# Altium schematic symbol library LimeMicroAltiumLib.SchLib: 659 symbols (part 8 of 22)
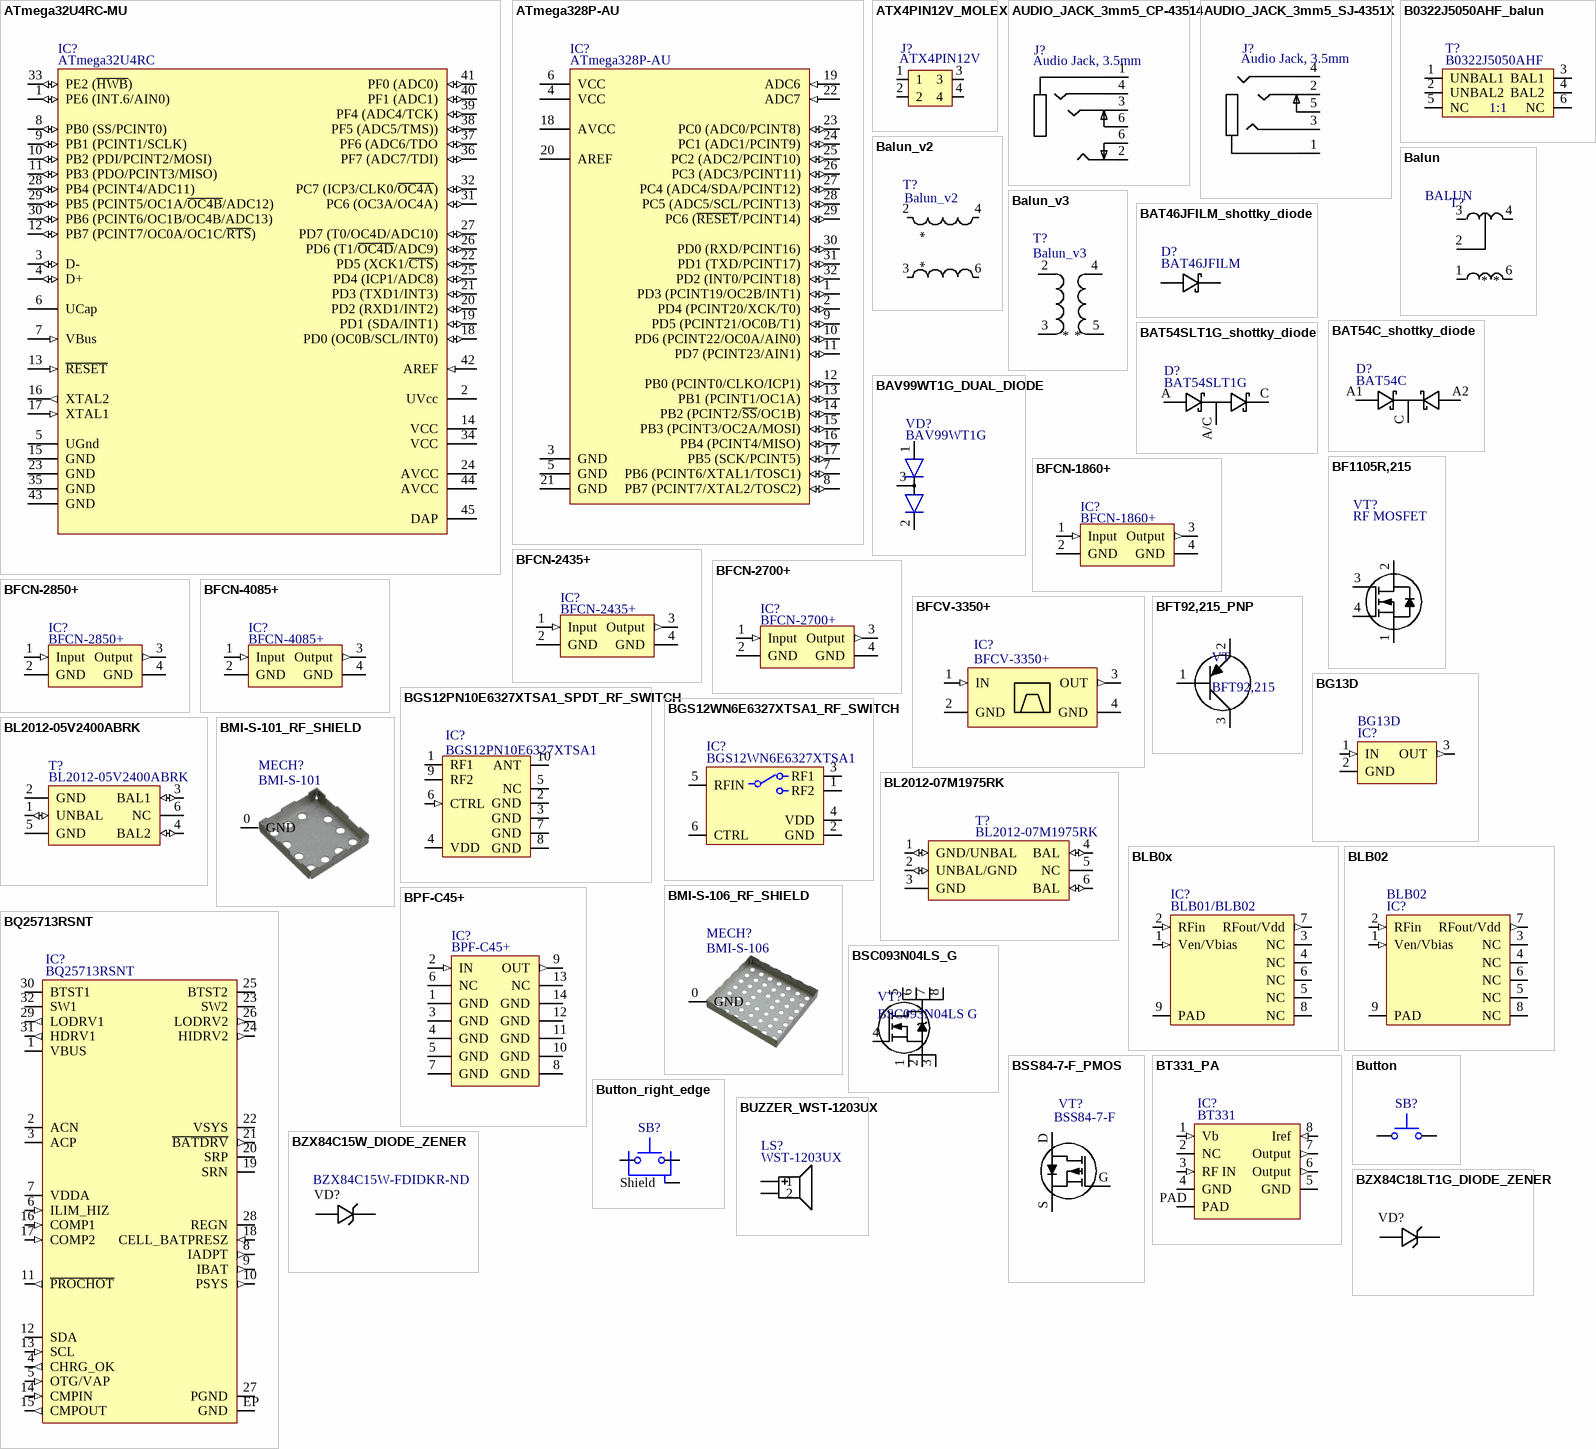
[diagram p85: symbols ATmega32U4RC-MU to BZX84C18LT1G_DIODE_ZENER]

## BMI-S-106_RF_SHIELD
designator MECH?, comment BMI-S-106
Part Description: RF Shield Shield, 1-Piece 1.326" (33.68mm) X 1.450" (36.83mm) Vent Holes in Pattern Surface Mount; Manufacturer: Laird; ComponentLink1URL: http://assets.lairdtech.com/home/brandworld/files/EMI-CAT-Essentials%201213.pdf?src-supplier=Digikey; ComponentLink1Description: http://assets.lairdtech.com/home/brandworld/files/EMI-CAT-Essentials%201213.pdf?src-supplier=Digikey; ComponentLink2URL: http://assets.lairdtech.com/home/brandworld/files/Board%20Level%20Shields%20Catalog%20Download.pdf?src-supplier=Digikey; ComponentLink2Description: http://assets.lairdtech.com/home/brandworld/files/Board%20Level%20Shields%20Catalog%20Download.pdf?src-supplier=Digikey; ComponentLink3URL: https://datasheet.octopart.com/BMI-S-101-Laird-datasheet-150754577.pdf?src-supplier=Sager+Electronics; ComponentLink3Description: https://datasheet.octopart.com/BMI-S-101-Laird-datasheet-150754577.pdf?src-supplier=Sager+Electronics; Supplier 1: Digikey; Supplier Part Number 1: 903-1011-1-ND; Manufacturer Part Number 1: BMI-S-106; Stock 1: 3779; Pricing 1: 1=5,5, 10=3,603, 25=3,1076, 100=2,548 (USD); RoHS: Yes; Mount: Solder; Packaging: Cut Tape; Series: SMT 1 Piece
footprint BMI-S-106_RF_SHIELD (Full footprint)
pins: 0 GND

## BPF-C45+
designator IC?
Part Description: Bandpass Filter; 50Ω; 30 to 70 MHz; CASE STYLE: HU1186; Manufacturer: MiniCircuits; Supplier 1: MiniCircuits; Manufacturer Part Number 1: BPF-C45+; Supplier Part Number 1: BPF-C45+
footprint BPF-C45+
pins: 1 GND, 2 IN (in), 3 GND, 4 GND, 5 GND, 6 NC, 7 GND, 8 GND, 9 OUT (out), 10 GND, 11 GND, 12 GND, 13 NC, 14 GND

## BQ25713RSNT
designator IC?
Manufacturer: Texas Instruments; Part Description: Battery Battery Monitor IC Multi-Chemistry 32-WQFN (4x4); Fault Protection: Over Current,Over Voltage,Over Temperature; Interface: I2C; Number of Cells: 1234; Supplier 1: Digi-Key; Supplier Part Number 1: 296-50241-1-ND; Manufacturer Part Number 1: BQ25713RSNT; Stock 1: 275; Pricing 1: 1=4,27000, 10=3,83200, 25=3,62240, 100=2,97850 (USD); RoHS: No; Min Operating Temperature: -40°C; Max Operating Temperature: 85°C; Packaging: Tape and Reel; ComponentLink1URL: http://www.ti.com/lit/ds/symlink/bq25713.pdf?src-supplier=Digi-Key; ComponentLink1Description: http://www.ti.com/lit/ds/symlink/bq25713.pdf?src-supplier=Digi-Key
footprint BQ25713RSNT_QFN4X4_32 (QFN, 32-Leads, Body 4.15x4.15mm, Pitch 0.4mm, IPC High Density)
pins: 1 VBUS, 2 ACN, 3 ACP, 4 CHRG_OK (out), 5 OTG/VAP (in), 6 ILIM_HIZ (in), 7 VDDA, 8 IADPT (out), 9 IBAT (out), 10 PSYS (out), 11 ~{PROCHOT} (out), 12 SDA (io), 13 SCL (in), 14 CMPIN (in), 15 CMPOUT (out), 16 COMP1 (in), 17 COMP2 (in), 18 CELL_BATPRESZ (in), 19 SRN, 20 SRP, 21 ~{BATDRV} (out), 22 VSYS, 23 SW2, 24 HIDRV2 (out), 25 BTST2, 26 LODRV2 (out), 27 PGND, 28 REGN, 29 LODRV1 (out), 30 BTST1, 31 HDRV1 (out), 32 SW1, EP GND

## BSC093N04LS_G
designator VT?, comment BSC093N04LS G
Manufacturer: Infineon Technologies; Power - Max: 35W; Vgs(th) (Max) @ Id: 2V @ 14µA; Current - Continuous Drain (Id) @ 25°C: 13A (Ta), 49A (Tc); FET Type: MOSFET N-Channel, Metal Oxide; Rds On (Max) @ Id, Vgs: 9.3 mOhm @ 40A, 10V; Gate Charge (Qg) @ Vgs: 24nC @ 10V; Input Capacitance (Ciss) @ Vds: 1900pF @ 20V; Drain to Source Voltage (Vdss): 40V; Supplier 1: Digi-Key; Category: Discrete Semiconductor Products; Manufacturer Part Number: BSC093N04LS G; Package / Case: 8-PowerTDFN; Supplier Part Number 1: BSC093N04LS GDKR-ND
footprint BSC093N04LS_G (SON, 8-Leads, Body 5,32x6,15mm, Pitch 1,27mm, Thermal Pad 3,60x4,05mm, IPC Medium Density)
pins: 1 S, 2 S, 3 S, 4 G, 5 D, 6 D, 7 D, 8 D

## BSS84-7-F_PMOS
designator VT?, comment BSS84-7-F
Part Description: MOSFET P-CH 50V 130MA SOT23-3; Manufacturer: Diodes; Input Capacitance: 45pF; Number of Elements: 1; Max Power Dissipation: 300mW; Rds On Max: 10R; Voltage Rating (DC): -50V; Current Rating: -130mA; Element Configuration: Single; Gate to Source Voltage (Vgs): 20V; Turn-Off Delay Time: 18ns; Continuous Drain Current (ID): 130mA; Turn-On Delay Time: 10ns; Threshold Voltage: -800mV; ComponentLink1URL: https://datasheet.ciiva.com/30021/csd25402q3a-30021955.pdf?src-supplier=Avnet; ComponentLink1Description: https://datasheet.ciiva.com/30021/csd25402q3a-30021955.pdf?src-supplier=Avnet; Supplier 1: Digi-Key; Supplier Part Number 1: BSS84-FDICT-ND; Manufacturer Part Number 1: BSS84-7-F; Stock 1: 952761; Pricing 1: 1=0,23000, 10=0,19000, 25=0,15920, 100=0,07780, 500=0,06488, 1000=0,04508 (USD); RoHS: Yes; Mount: Surface Mount; Case/Package: SOT-23; Number of Pins: 3; Contact Plating: Tin,Matte; Weight: 0.000282oz; Min Operating Temperature: -55°C; Max Operating Temperature: 150°C; Packaging: Tape and Reel; Package Quantity: 3000; Number of Channels: 1; On-State Resistance: 10R; Power Dissipation: 300mW; Drain to Source Resistance: 10R; Drain to Source Voltage (Vdss): -50V; Length: 2.9mm; Width: 1.3mm; Height: 1mm; Lead Free: Lead Free; REACH SVHC: No SVHC; ComponentLink2URL: https://datasheet.ciiva.com/16221/ds30149-16221984.pdf?src-supplier=Future+Electronics; ComponentLink2Description: https://datasheet.ciiva.com/16221/ds30149-16221984.pdf?src-supplier=Future+Electronics; ComponentLink3URL: https://datasheet.ciiva.com/4442/ds30149-42275-4442950.pdf?src-supplier=Mouser; ComponentLink3Description: https://datasheet.ciiva.com/4442/ds30149-42275-4442950.pdf?src-supplier=Mouser; ComponentLink4URL: https://datasheet.ciiva.com/934/ds30149-934539.pdf?src-supplier=Digi-Key; ComponentLink4Description: https://datasheet.ciiva.com/934/ds30149-934539.pdf?src-supplier=Digi-Key; ComponentLink5URL: https://datasheet.ciiva.com/8115/ds30149-8115403.pdf?src-supplier=Avnet; ComponentLink5Description: https://datasheet.ciiva.com/8115/ds30149-8115403.pdf?src-supplier=Avnet; ComponentLink6URL: https://datasheet.ciiva.com/934/ds30149-934540.pdf?src-supplier=Digi-Key; ComponentLink6Description: https://datasheet.ciiva.com/934/ds30149-934540.pdf?src-supplier=Digi-Key; ComponentLink7URL: https://datasheet.ciiva.com/49020/70437757-49020999.pdf?src-supplier=Allied+Electronics; ComponentLink7Description: https://datasheet.ciiva.com/49020/70437757-49020999.pdf?src-supplier=Allied+Electronics
footprint SOT23-3 (Footprint not found)
pins: D, G, S

## BT331_PA
designator IC?, comment BT331
Berex BT331 RF PA; Part Description: 700-2700 MHz 1.5-2W RF Power Amplifier; Manufacturer Part Number 1: BT331; Supplier Part Number 1: BT331; Supplier 1: Berex; Manufacturer: Berex
footprint BT331_PA (Berex BT331 RF PA)
pins: 1 Vb (in), 2 NC, 3 RF IN (in), 4 GND, 5 GND, 6 Output (out), 7 Output (out), 8 Iref (in), PAD

## Button
designator SB?  (value not drawn)
pins: 1, 2

## Button_right_edge
designator SB?, comment Switch tactile right edge  (value not drawn)
Part Description: Tactile Switch SPST-NO Side Actuated Through Hole, Right Angle
footprint SW_TACTILE_RIGHT_EDGE (part number 1825027-5)
pins: 1, 2, Shield

## BUZZER_WST-1203UX
designator LS?, comment WST-1203UX
Manufacturer: Soberton Inc.; Part Description: Buzzers Indicator, Internally Driven Magnetic 3V 30mA 2.3kHz 82dB @ 3V, 10cm Through Hole PC Pins; Driver Circuitry: Indicator, Internally Driven; Input Type: Zero-Peak Signal; Voltage Range: 2 ~ 4V; Frequency: 2.3kHz; Operating Mode: Single Tone; Sound Pressure Level (SPL): 82dB @ 3V, 10cm; Current - Supply: 30mA; Port Location: Top; Ratings: Washable; Supplier 1: Digi-Key; Manufacturer Part Number 1: WST-1203UX; RoHS: RoHS Compliant; Category: Audio Products; Stock 1: 22696; Pricing 1: 1=1.41, 10=1.117, 25=1.0176, 50=0.9516, 100=0.8855, 250=0.80852, 500=0.7535, 1000=0.704, 5000=0.6875 (USD); Packaging: Tray; Part Status: Active; Technology: Magnetic; Duration: -; Operating Temperature: -20°C ~ 60°C; Approvals: -; Mounting Type: Through Hole; Termination: PC Pins; Size / Dimension: 0.472" Dia (12.00mm); Height - Seated (Max): 0.303" (7.70mm); ComponentLink1URL: http://cirlw3yrzg4afc1x47lv2k18.wpengine.netdna-cdn.com/wp-content/uploads/2016/12/WST-1203UX-new.pdf; ComponentLink1Description: http://cirlw3yrzg4afc1x47lv2k18.wpengine.netdna-cdn.com/wp-content/uploads/2016/12/WST-1203UX-new.pdf; Supplier Part Number 1: 433-1047-ND
footprint BUZZER_WST-1203UX
pins: 1, 2

## BZX84C15W_DIODE_ZENER
designator VD?  Supplier Part Number 1: BZX84C15W-FDIDKR-ND
Part Description: Zener Diode 15V 200mW ±6% Surface Mount SOT-323; Manufacturer: Diodes; Manufacturer Part Number 1: BZX84C15W-7-F; Max Power Dissipation: 200mW; Tolerance: 6%; Zener Voltage: 15V; Impedance: 30R; Max Reverse Leakage Current: 100nA; Zener Current: 5mA; Element Configuration: Single; Output Current: 23mA; ESD Protection: No; ComponentLink1URL: http://www.onsemi.com/pub/Collateral/BZX84C2V4LT1-D.PDF; ComponentLink1Description: http://www.onsemi.com/pub/Collateral/BZX84C2V4LT1-D.PDF; ComponentLink2URL: https://www.verical.com/server-webapp/html/getDatasheet?partID=101861; ComponentLink2Description: https://www.verical.com/server-webapp/html/getDatasheet?partID=101861; ComponentLink3URL: http://www.farnell.com/datasheets/1874542.pdf; ComponentLink3Description: http://www.farnell.com/datasheets/1874542.pdf; ComponentLink4URL: https://www.alliedelec.com/m/d/89a0f5fa5faf07909887b6182710b562.pdf; ComponentLink4Description: https://www.alliedelec.com/m/d/89a0f5fa5faf07909887b6182710b562.pdf; ComponentLink5URL: https://www.onsemi.com/pub/Collateral/BZX84C2V4LT1-D.PDF; ComponentLink5Description: https://www.onsemi.com/pub/Collateral/BZX84C2V4LT1-D.PDF; ComponentLink6URL: http://www.onsemi.com/pub_link/Collateral/BZX84C2V4LT1-D.PDF; ComponentLink6Description: http://www.onsemi.com/pub_link/Collateral/BZX84C2V4LT1-D.PDF; Supplier 1: Digi-Key; Stock 1: 4066; Pricing 1: 1=0.38, 10=0.284, 100=0.161, 500=0.1066, 1000=0.08173 (USD); Mount: Surface Mount; Case/Package: SOT-323; Number of Pins: 3; Weight: 0.000212oz; Contact Plating: Matte,Tin; Min Operating Temperature: -65°C; Max Operating Temperature: 125°C; Packaging: Tape and Reel; Package Quantity: 3000; Power Dissipation: 200mW; Voltage Tolerance: 6%; Test Current: 5mA; Termination: SMD/SMT; Peak Reverse Current: 100nA; Power Rating: 200mW; Voltage Rating (DC): 15V; Length: 2.2mm; Height: 1mm; Width: 1.35mm; Radiation Hardening: No; Lead Free: Lead Free; ComponentLink7URL: http://www.diodes.com/datasheets/ds30066.pdf; ComponentLink7Description: http://www.diodes.com/datasheets/ds30066.pdf; ComponentLink8URL: https://www.diodes.com/assets/Datasheets/ds30066.pdf; ComponentLink8Description: https://www.diodes.com/assets/Datasheets/ds30066.pdf; ComponentLink9URL: http://www.diodes.com//datasheets/ds30066.pdf; ComponentLink9Description: http://www.diodes.com//datasheets/ds30066.pdf
footprint SOT323 (SOT323, 3 pin)
pins: 1 A, 3 C

## BZX84C18LT1G_DIODE_ZENER
designator VD?
Diode Zener SMD SOD-323; Part Description: Zener Diode 18V 225mW ±6% Surface Mount SOT-23-3 (TO-236); Manufacturer: ON Semiconductor; Manufacturer Part Number: BZX84C18LT1G; Material: Plastic; Max Power Dissipation: 225mW; Tolerance: 6%; Max Reverse Leakage Current: 50nA; Impedance: 45R; Power Dissipation: 300mW; Zener Voltage: 18V; Test Current: 5mA; Element Configuration: Single; Breakdown Voltage: 19.1V; Forward Voltage: 900mV; Zener Current: 10mA; ESD Protection: Yes; Supplier 1: Digi-Key; Stock 1: 25889; Pricing 1: 1=0.15, 10=0.135, 100=0.0735, 500=0.04522, 1000=0.03084 (USD); Case/Package: SOT-23-3; Number of Pins: 3; Contact Plating: Matte,Tin; Min Operating Temperature: -65°C; Max Operating Temperature: 150°C; Packaging: Tape and Reel; Package Quantity: 3000; Voltage Tolerance: 6%; Voltage Rating (DC): 18V; Power Rating: 225mW; Working Voltage: 18V; Peak Reverse Current: 50nA; Length: 2.9mm; Height: 0.94mm; Width: 1.3mm; Radiation Hardening: No; Lead Free: Lead Free; Halogen Free: Halogen Free; REACH SVHC: No SVHC; ComponentLink1URL: http://www.onsemi.com/pub/Collateral/BZX84C2V4LT1-D.PDF; ComponentLink1Description: http://www.onsemi.com/pub/Collateral/BZX84C2V4LT1-D.PDF; ComponentLink2URL: https://www.verical.com/server-webapp/html/getDatasheet?partID=101861; ComponentLink2Description: https://www.verical.com/server-webapp/html/getDatasheet?partID=101861; ComponentLink3URL: http://www.farnell.com/datasheets/1874542.pdf; ComponentLink3Description: http://www.farnell.com/datasheets/1874542.pdf; ComponentLink4URL: https://www.alliedelec.com/m/d/89a0f5fa5faf07909887b6182710b562.pdf; ComponentLink4Description: https://www.alliedelec.com/m/d/89a0f5fa5faf07909887b6182710b562.pdf; ComponentLink5URL: https://www.onsemi.com/pub/Collateral/BZX84C2V4LT1-D.PDF; ComponentLink5Description: https://www.onsemi.com/pub/Collateral/BZX84C2V4LT1-D.PDF; ComponentLink6URL: http://www.onsemi.com/pub_link/Collateral/BZX84C2V4LT1-D.PDF; ComponentLink6Description: http://www.onsemi.com/pub_link/Collateral/BZX84C2V4LT1-D.PDF; Supplier Part Number 1: BZX84C18LT1GOSCT-ND
footprint SOT23-3_v2 (SOT23, 3 pin)
pins: 1 A, 3 C

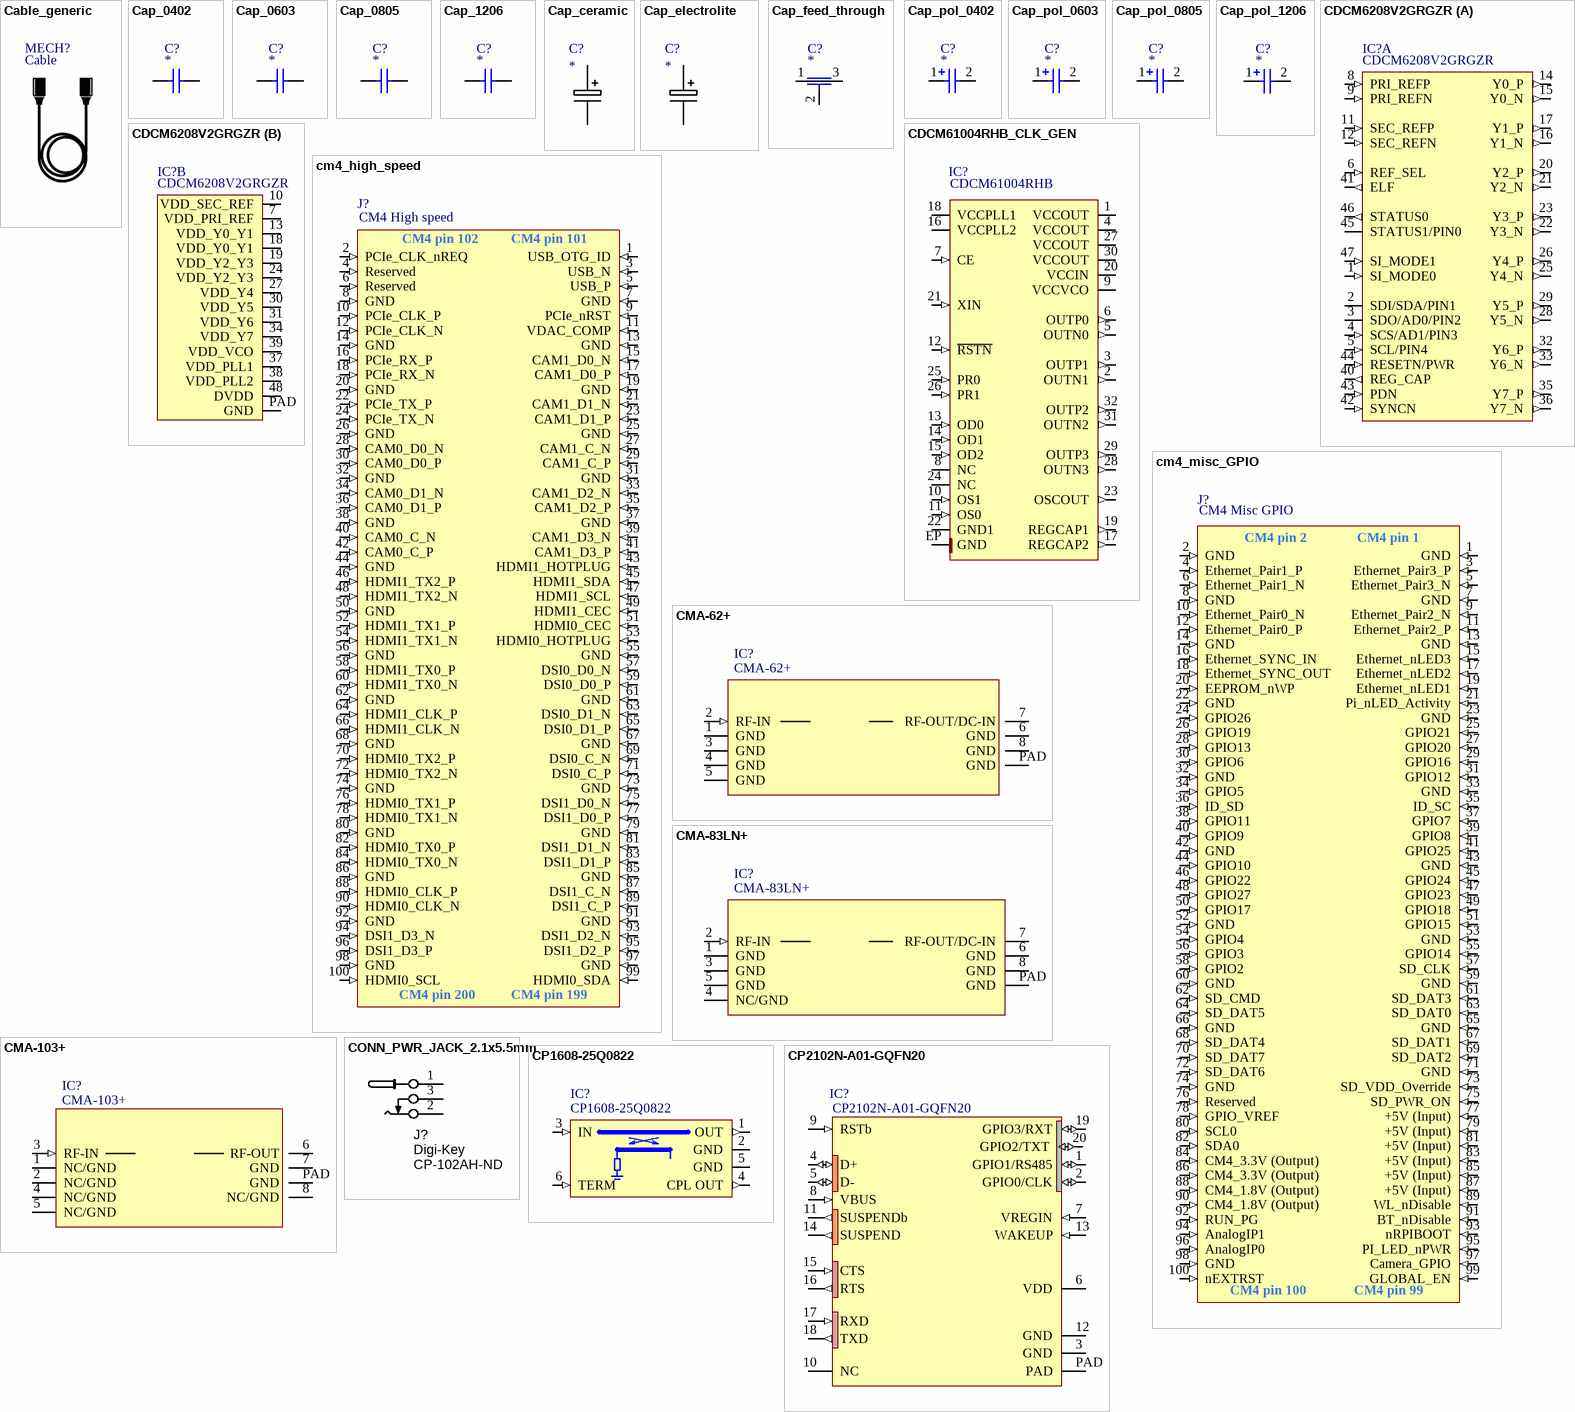
[diagram p25: symbols Cable_generic to CP2102N-A01-GQFN20]

## Cable_generic
designator MECH?, comment Cable  (mechanical)

## Cap_0402
designator C?
Value: *
footprint CAP0402 (Chip Capacitor, Body 1.0x0.5mm, 0402, IPC Medium Density)
pins: 1, 2

## Cap_0603
designator C?
Value: *
footprint CAP0603 (Chip Capacitor, Body 1.6x0.8mm, 0603, IPC Medium Density)
pins: 1, 2

## Cap_0805
designator C?
Value: *
footprint CAP0805 (Chip Capacitor, Body 2.0x1.2mm, 0805, IPC Medium Density)
pins: 1, 2

## Cap_1206
designator C?
Value: *
footprint CAP1206 (Chip Capacitor, Body 3.2x1.6mm, 1206, IPC Medium Density)
pins: 1, 2

## Cap_ceramic
designator C?
Value: *
footprint Cap_pol_100uF
pins: 1, 2

## Cap_electrolite
designator C?
Value: *
footprint Cap_pol_100uF
pins: 1, 2

## Cap_feed_through
designator C?
Value: *
pins: 1, 2, 3

## Cap_pol_0402
designator C?
Value: *
pins: 1, 2

## Cap_pol_0603
designator C?
Value: *
pins: 1, 2

## Cap_pol_0805
designator C?
Value: *
pins: 1, 2

## Cap_pol_1206
designator C?
Value: *
pins: 1, 2

## CDCM6208V2GRGZR
designator IC?
Manufacturer: Texas Instruments; Part Description: IC CLK GEN 2:8 LOW JITTER 48VQFN; Number of Circuits: 1; Max Frequency: 800MHz; Input: Crystal; Number of Outputs: 8; Supplier 1: Digi-Key; Manufacturer Part Number 1: CDCM6208V2GRGZR; Stock 1: 1501; Pricing 1: 1 = 11,22000, 10 = 10,13400, 100 = 8,38960, 500 = 7,30558, 1000 = 6,36293 (USD); RoHS: Yes; Mount: Surface Mount; Case/Package: VQFN; Min Operating Temperature: -40°C; Max Operating Temperature: 85°C; Packaging: Tape and Reel; Lead Free: Lead Free; ComponentLink1URL: http://www.ti.com/lit/ds/symlink/cdcm6208v2g.pdf?src-supplier=Digi-Key; ComponentLink1Description: http://www.ti.com/lit/ds/symlink/cdcm6208v2g.pdf?src-supplier=Digi-Key; ComponentLink2URL: http://www.ti.com/lit/gpn/cdcm6208v2g?src-supplier=Mouser; ComponentLink2Description: http://www.ti.com/lit/gpn/cdcm6208v2g?src-supplier=Mouser; Supplier Part Number 1: 296-51011-1-ND
part A pins: 1 SI_MODE0 (in), 2 SDI/SDA/PIN1 (io), 3 SDO/AD0/PIN2 (io), 4 SCS/AD1/PIN3 (in), 5 SCL/PIN4 (in), 6 REF_SEL (in), 8 PRI_REFP (in), 9 PRI_REFN (in), 11 SEC_REFP (in), 12 SEC_REFN (in), 14 Y0_P (out), 15 Y0_N (out), 16 Y1_N (out), 17 Y1_P (out), 20 Y2_P (out), 21 Y2_N (out), 22 Y3_N (out), 23 Y3_P (out), 25 Y4_N (out), 26 Y4_P (out), 28 Y5_N (out), 29 Y5_P (out), 32 Y6_P (out), 33 Y6_N (out), 35 Y7_P (out), 36 Y7_N (out), 40 REG_CAP (out), 41 ELF (out), 42 SYNCN (in), 43 PDN (in), 44 RESETN/PWR (in), 45 STATUS1/PIN0 (io), 46 STATUS0 (out), 47 SI_MODE1 (in)
part B pins: 7 VDD_PRI_REF (power), 10 VDD_SEC_REF (power), 13 VDD_Y0_Y1 (power), 18 VDD_Y0_Y1 (power), 19 VDD_Y2_Y3 (power), 24 VDD_Y2_Y3 (power), 27 VDD_Y4 (power), 30 VDD_Y5 (power), 31 VDD_Y6 (power), 34 VDD_Y7 (power), 37 VDD_PLL1 (power), 38 VDD_PLL2 (power), 39 VDD_VCO (power), 48 DVDD (power), PAD GND

## CDCM61004RHB_CLK_GEN
designator IC?, comment CDCM61004RHB
Part Description: Clock Generator IC 683.27MHz 32-VFQFN Exposed Pad; Manufacturer: Texas Instruments; Manufacturer Part Number 1: CDCM61004RHBT; Frequency: 683.28MHz; Number of Outputs: 4; Nominal Supply Current: 215mA; Number of Elements: 1; Min Supply Voltage: 3V; Max Supply Voltage: 3.6V; Operating Supply Voltage: 3.3V; Max Frequency: 683.27MHz; Operating Supply Current: 108mA; Max Supply Current: 65mA; Input: Crystal; Input Current: 200mA; Supplier 1: Digi-Key; Supplier Part Number 1: 296-24194-1-ND; Stock 1: 1415; Pricing 1: 1=9,06000, 10=8,18800, 25=7,80760, 100=6,77930 (USD); RoHS: Yes; Mount: Surface Mount; Case/Package: VQFN; Number of Pins: 32; Weight: 0.002547oz; Contact Plating: Gold; Min Operating Temperature: -40°C; Max Operating Temperature: 85°C; Packaging: Tape and Reel; Package Quantity: 1; Number of Circuits: 1; Termination: SMD/SMT; Length: 5mm; Width: 5mm; Height: 0.8mm; Radiation Hardening: No; REACH SVHC: No SVHC; Lead Free: Lead Free; RoHS Compliant: Yes; ComponentLink1URL: https://datasheet.ciiva.com/6677/cdcm61004-6677168.pdf?src-supplier=Digi-Key; ComponentLink1Description: https://datasheet.ciiva.com/6677/cdcm61004-6677168.pdf?src-supplier=Digi-Key; ComponentLink2URL: https://datasheet.ciiva.com/14247/cdcm61004-14247059.pdf?src-supplier=Avnet; ComponentLink2Description: https://datasheet.ciiva.com/14247/cdcm61004-14247059.pdf?src-supplier=Avnet; ComponentLink3URL: https://datasheet.ciiva.com/1138/1781794-1138868.pdf?src-supplier=Element14; ComponentLink3Description: https://datasheet.ciiva.com/1138/1781794-1138868.pdf?src-supplier=Element14; ComponentLink4URL: https://datasheet.ciiva.com/26033/cdcm61004-26033080.pdf?src-supplier=Avnet+Europe; ComponentLink4Description: https://datasheet.ciiva.com/26033/cdcm61004-26033080.pdf?src-supplier=Avnet+Europe; ComponentLink5URL: https://datasheet.ciiva.com/14247/cdcm61004-14247241.pdf?src-supplier=Avnet; ComponentLink5Description: https://datasheet.ciiva.com/14247/cdcm61004-14247241.pdf?src-supplier=Avnet; ComponentLink6URL: https://datasheet.ciiva.com/46396/1781794-46396315.pdf?src-supplier=Element14; ComponentLink6Description: https://datasheet.ciiva.com/46396/1781794-46396315.pdf?src-supplier=Element14; ComponentLink7URL: https://datasheet.ciiva.com/1141/cdcm61004-1141260.pdf?src-supplier=Farnell; ComponentLink7Description: https://datasheet.ciiva.com/1141/cdcm61004-1141260.pdf?src-supplier=Farnell; ComponentLink8URL: https://datasheet.ciiva.com/15153/getdatasheetpartid-226426-15153388.pdf?src-supplier=Verical; ComponentLink8Description: https://datasheet.ciiva.com/15153/getdatasheetpartid-226426-15153388.pdf?src-supplier=Verical; ComponentLink9URL: https://datasheet.ciiva.com/46433/1781794-46433420.pdf?src-supplier=Element14; ComponentLink9Description: https://datasheet.ciiva.com/46433/1781794-46433420.pdf?src-supplier=Element14; ComponentLink10URL: https://datasheet.ciiva.com/1200/cdcm61004-1200223.pdf?src-supplier=Digi-Key; ComponentLink10Description: https://datasheet.ciiva.com/1200/cdcm61004-1200223.pdf?src-supplier=Digi-Key
footprint CDCM61004RHB_CLK_GEN_VQFN32
pins: 1 VCCOUT (power), 2 OUTN1 (out), 3 OUTP1 (out), 4 VCCOUT (power), 5 OUTN0 (out), 6 OUTP0 (out), 7 CE (in), 8 NC, 9 VCCVCO (power), 10 OS1 (in), 11 OS0 (in), 12 ~{RSTN} (in), 13 OD0 (in), 14 OD1 (in), 15 OD2 (in), 16 VCCPLL2 (power), 17 REGCAP2 (out), 18 VCCPLL1 (power), 19 REGCAP1 (out), 20 VCCIN (power), 21 XIN (in), 22 GND1, 23 OSCOUT (out), 24 NC, 25 PR0 (in), 26 PR1 (in), 27 VCCOUT (power), 28 OUTN3 (out), 29 OUTP3 (out), 30 VCCOUT (power), 31 OUTN2 (out), 32 OUTP2 (out), EP GND

## cm4_high_speed
designator J?, comment CM4 High speed
Manufacturer: Hirose; Manufacturer Part Number 1: DF40HC(3.0)-100DS-0.4V(51; Part Description: 100 Position Connector Receptacle, Center Strip Contacts Surface Mount Gold; Supplier 1: Mouser; Supplier Part Number 1: 798-DF40HC30100DS451; Stock 1: 0; Pricing 1: 1=2,50000, 10=2,15000, 50=2,15000, 100=2,00000, 250=1,75000, 500=1,70000, 1000=1,45000, 3000=1,34000, 10000=1,34000 (USD); RoHS: Yes; ComponentLink1URL: https://datasheet.ciiva.com/13559/ed-df40-20140305-13559540.pdf?src-supplier=Mouser; ComponentLink1Description: https://datasheet.ciiva.com/13559/ed-df40-20140305-13559540.pdf?src-supplier=Mouser; ComponentLink2URL: https://datasheet.ciiva.com/18562/ed-df40-20140305-18562462.pdf?src-supplier=Digi-Key; ComponentLink2Description: https://datasheet.ciiva.com/18562/ed-df40-20140305-18562462.pdf?src-supplier=Digi-Key
footprint FP-DF40HC_3_0_-100DS-0_4V-MFG
pins: 1 USB_OTG_ID (in), 2 PCIe_CLK_nREQ (in), 3 USB_N (in), 4 Reserved (in), 5 USB_P (in), 6 Reserved (in), 7 GND (in), 8 GND (in), 9 PCIe_nRST (in), 10 PCIe_CLK_P (in), 11 VDAC_COMP (in), 12 PCIe_CLK_N (in), 13 GND (in), 14 GND (in), 15 CAM1_D0_N (in), 16 PCIe_RX_P (in), 17 CAM1_D0_P (in), 18 PCIe_RX_N (in), 19 GND (in), 20 GND (in), 21 CAM1_D1_N (in), 22 PCIe_TX_P (in), 23 CAM1_D1_P (in), 24 PCIe_TX_N (in), 25 GND (in), 26 GND (in), 27 CAM1_C_N (in), 28 CAM0_D0_N (in), 29 CAM1_C_P (in), 30 CAM0_D0_P (in), 31 GND (in), 32 GND (in), 33 CAM1_D2_N (in), 34 CAM0_D1_N (in), 35 CAM1_D2_P (in), 36 CAM0_D1_P (in), 37 GND (in), 38 GND (in), 39 CAM1_D3_N (in), 40 CAM0_C_N (in), 41 CAM1_D3_P (in), 42 CAM0_C_P (in), 43 HDMI1_HOTPLUG (in), 44 GND (in), 45 HDMI1_SDA (in), 46 HDMI1_TX2_P (in), 47 HDMI1_SCL (in), 48 HDMI1_TX2_N (in), 49 HDMI1_CEC (in), 50 GND (in), 51 HDMI0_CEC (in), 52 HDMI1_TX1_P (in), 53 HDMI0_HOTPLUG (in), 54 HDMI1_TX1_N (in), 55 GND (in), 56 GND (in), 57 DSI0_D0_N (in), 58 HDMI1_TX0_P (in), 59 DSI0_D0_P (in), 60 HDMI1_TX0_N (in), 61 GND (in), 62 GND (in), 63 DSI0_D1_N (in), 64 HDMI1_CLK_P (in), 65 DSI0_D1_P (in), 66 HDMI1_CLK_N (in), 67 GND (in), 68 GND (in), 69 DSI0_C_N (in), 70 HDMI0_TX2_P (in), 71 DSI0_C_P (in), 72 HDMI0_TX2_N (in), 73 GND (in), 74 GND (in), 75 DSI1_D0_N (in), 76 HDMI0_TX1_P (in), 77 DSI1_D0_P (in), 78 HDMI0_TX1_N (in), 79 GND (in), 80 GND (in), 81 DSI1_D1_N (in), 82 HDMI0_TX0_P (in), 83 DSI1_D1_P (in), 84 HDMI0_TX0_N (in), 85 GND (in), 86 GND (in), 87 DSI1_C_N (in), 88 HDMI0_CLK_P (in), 89 DSI1_C_P (in), 90 HDMI0_CLK_N (in), 91 GND (in), 92 GND (in), 93 DSI1_D2_N (in), 94 DSI1_D3_N (in), 95 DSI1_D2_P (in), 96 DSI1_D3_P (in), 97 GND (in), 98 GND (in), 99 HDMI0_SDA (in), 100 HDMI0_SCL (in)
text: CM4 pin 102; CM4 pin 101; CM4 pin 200; CM4 pin 199

## cm4_misc_GPIO
designator J?, comment CM4 Misc GPIO
Manufacturer: Hirose; Manufacturer Part Number 1: DF40HC(3.0)-100DS-0.4V(51; Part Description: 100 Position Connector Receptacle, Center Strip Contacts Surface Mount Gold; Supplier 1: Mouser; Supplier Part Number 1: 798-DF40HC30100DS451; Stock 1: 0; Pricing 1: 1=2,50000, 10=2,15000, 50=2,15000, 100=2,00000, 250=1,75000, 500=1,70000, 1000=1,45000, 3000=1,34000, 10000=1,34000 (USD); RoHS: Yes; ComponentLink1URL: https://datasheet.ciiva.com/13559/ed-df40-20140305-13559540.pdf?src-supplier=Mouser; ComponentLink1Description: https://datasheet.ciiva.com/13559/ed-df40-20140305-13559540.pdf?src-supplier=Mouser; ComponentLink2URL: https://datasheet.ciiva.com/18562/ed-df40-20140305-18562462.pdf?src-supplier=Digi-Key; ComponentLink2Description: https://datasheet.ciiva.com/18562/ed-df40-20140305-18562462.pdf?src-supplier=Digi-Key
footprint FP-DF40HC_3_0_-100DS-0_4V-MFG
pins: 1 GND (in), 2 GND (in), 3 Ethernet_Pair3_P (in), 4 Ethernet_Pair1_P (in), 5 Ethernet_Pair3_N (in), 6 Ethernet_Pair1_N (in), 7 GND (in), 8 GND (in), 9 Ethernet_Pair2_N (in), 10 Ethernet_Pair0_N (in), 11 Ethernet_Pair2_P (in), 12 Ethernet_Pair0_P (in), 13 GND (in), 14 GND (in), 15 Ethernet_nLED3 (in), 16 Ethernet_SYNC_IN (in), 17 Ethernet_nLED2 (in), 18 Ethernet_SYNC_OUT (in), 19 Ethernet_nLED1 (in), 20 EEPROM_nWP (in), 21 Pi_nLED_Activity (in), 22 GND (in), 23 GND (in), 24 GPIO26 (in), 25 GPIO21 (in), 26 GPIO19 (in), 27 GPIO20 (in), 28 GPIO13 (in), 29 GPIO16 (in), 30 GPIO6 (in), 31 GPIO12 (in), 32 GND (in), 33 GND (in), 34 GPIO5 (in), 35 ID_SC (in), 36 ID_SD (in), 37 GPIO7 (in), 38 GPIO11 (in), 39 GPIO8 (in), 40 GPIO9 (in), 41 GPIO25 (in), 42 GND (in), 43 GND (in), 44 GPIO10 (in), 45 GPIO24 (in), 46 GPIO22 (in), 47 GPIO23 (in), 48 GPIO27 (in), 49 GPIO18 (in), 50 GPIO17 (in), 51 GPIO15 (in), 52 GND (in), 53 GND (in), 54 GPIO4 (in), 55 GPIO14 (in), 56 GPIO3 (in), 57 SD_CLK (in), 58 GPIO2 (in), 59 GND (in), 60 GND (in), 61 SD_DAT3 (in), 62 SD_CMD (in), 63 SD_DAT0 (in), 64 SD_DAT5 (in), 65 GND (in), 66 GND (in), 67 SD_DAT1 (in), 68 SD_DAT4 (in), 69 SD_DAT2 (in), 70 SD_DAT7 (in), 71 GND (in), 72 SD_DAT6 (in), 73 SD_VDD_Override (in), 74 GND (in), 75 SD_PWR_ON (in), 76 Reserved (in), 77 +5V (Input) (in), 78 GPIO_VREF (in), 79 +5V (Input) (in), 80 SCL0 (in), 81 +5V (Input) (in), 82 SDA0 (in), 83 +5V (Input) (in), 84 CM4_3.3V (Output) (in), 85 +5V (Input) (in), 86 CM4_3.3V (Output) (in), 87 +5V (Input) (in), 88 CM4_1.8V (Output) (in), 89 WL_nDisable (in), 90 CM4_1.8V (Output) (in), 91 BT_nDisable (in), 92 RUN_PG (in), 93 nRPIBOOT (in), 94 AnalogIP1 (in), 95 PI_LED_nPWR (in), 96 AnalogIP0 (in), 97 Camera_GPIO (in), 98 GND (in), 99 GLOBAL_EN (in), 100 nEXTRST (in)
text: CM4 pin 2; CM4 pin 1; CM4 pin 100; CM4 pin 99

## CMA-62+
designator IC?
Monolithic Amplifier 50Ω 0.01 to 6 GHz; Manufacturer: Mini-Circuits; Part Description: Monolithic Amplifier 50Ω 0.01 to 6 GHz; Manufacturer Part Number 1: CMA-62+; Supplier 1: Mini-Circuits; Supplier Part Number 1: CMA-62+
footprint CMA-62+_DL1721 (Quad Flat No Lead, Plastic; 16 Terminals; Body 3 x 3 mm; Pitch 0.5 mm)
pins: 1 GND, 2 RF-IN (in), 3 GND, 4 GND, 5 GND, 6 GND, 7 RF-OUT/DC-IN (oc), 8 GND, PAD GND

## CMA-83LN+
designator IC?
Monolithic Amplifier 50Ω 0.5 to 8 GHz; Manufacturer: Mini-Circuits; Part Description: Monolithic Amplifier 50Ω 0.5 to 8 GHz; Manufacturer Part Number 1: CMA-83LN+; Supplier 1: Mini-Circuits; Supplier Part Number 1: CMA-83LN+
footprint CMA-62+_DL1721 (Quad Flat No Lead, Plastic; 16 Terminals; Body 3 x 3 mm; Pitch 0.5 mm)
pins: 1 GND, 2 RF-IN (in), 3 GND, 4 NC/GND, 5 GND, 6 GND, 7 RF-OUT/DC-IN (oc), 8 GND, PAD GND

## CMA-103+
designator IC?
Monolithic Amplifier 50Ω 0.05 to 4 GHz; Manufacturer: Mini-Circuits; Manufacturer Part Number 1: CMA-103+; Part Description: Monolithic Amplifier 50Ω 0.05 to 4 GHz; Supplier 1: Mini-Circuits; Supplier Part Number 1: CMA-103+
footprint CMA-103+_DL1721 (Quad Flat No Lead, Plastic; 16 Terminals; Body 3 x 3 mm; Pitch 0.5 mm)
pins: 1 NC/GND, 2 NC/GND, 3 RF-IN (in), 4 NC/GND, 5 NC/GND, 6 RF-OUT (oc), 7 GND, 8 NC/GND, PAD GND

## CONN_PWR_JACK_2.1x5.5mm
designator J?  Supplier 1: Digi-Key  Supplier Part Number 1: CP-102AH-ND  (hidden comment: *)
Power Connector, THT, 2.1mm ID, 5.5mm OD; Manufacturer 1: CUI Inc; Manufacturer Part Number 1: PJ-102AH; Category: Connectors; Mounting Type: Through Hole; Package / Case: PCB mount; Value: 2.1mm ID, 5.5mm OD
footprint CONN_PWR_JACK_2.1x5.5mm (Power Connector, 2.1mm ID, 5.5mm OD)
pins: 1, 2, 3

## CP1608-25Q0822
designator IC?
RF coupler; Part Description: 0.8 ~ 6 GHz monolithic coupler, 1608 package; Manufacturer: ACX; Supplier 1: ACX; Manufacturer Part Number 1: CP1608-25Q0822; Supplier Part Number 1: CP1608-25Q0822
footprint CP1608-25Q0822T
pins: 1 OUT (out), 2 GND, 3 IN (in), 4 CPL OUT (out), 5 GND, 6 TERM (in)

## CP2102N-A01-GQFN20
designator IC?
Part Description: USB Bridge, USB to UART USB 2.0 UART Interface 24-QFN (4x4); Manufacturer: Silicon Labs; Protocol: USB; Function: Bridge, USB to UART; Interface: UART; Standards: USB 2.0; Voltage - Supply: 2.2 V ~ 3.6 V; Current - Supply: 9.5mA; Supplier 1: Digi-Key; Manufacturer Part Number 1: CP2102N-A01-GQFN20; RoHS: RoHS Compliant; Category: Integrated Circuits (ICs); Stock 1: 19; Pricing 1: 1=1.34, 25=1.2928, 100=1.2423, 1000=1.1716 (USD); Packaging: Tray; Part Status: Active; Operating Temperature: -40°C ~ 85°C; Package / Case: 20-WFQFN Exposed Pad; Supplier Device Package: 20-QFN (3x3); ComponentLink1URL: http://www.silabs.com/support%20documents/technicaldocs/cp2102n-datasheet.pdf; ComponentLink1Description: http://www.silabs.com/support%20documents/technicaldocs/cp2102n-datasheet.pdf; Supplier Part Number 1: 336-3692-ND
footprint CP2102N-A01-GQFN20 (Footprint not found)
pins: 1 GPIO1/RS485 (io), 2 GPIO0/CLK (io), 3 GND, 4 D+ (io), 5 D- (io), 6 VDD (power), 7 VREGIN (in), 8 VBUS (in), 9 RSTb (in), 10 NC, 11 SUSPENDb (out), 12 GND, 13 WAKEUP (in), 14 SUSPEND (out), 15 CTS (in), 16 RTS (out), 17 RXD (in), 18 TXD (out), 19 GPIO3/RXT (io), 20 GPIO2/TXT (io), PAD

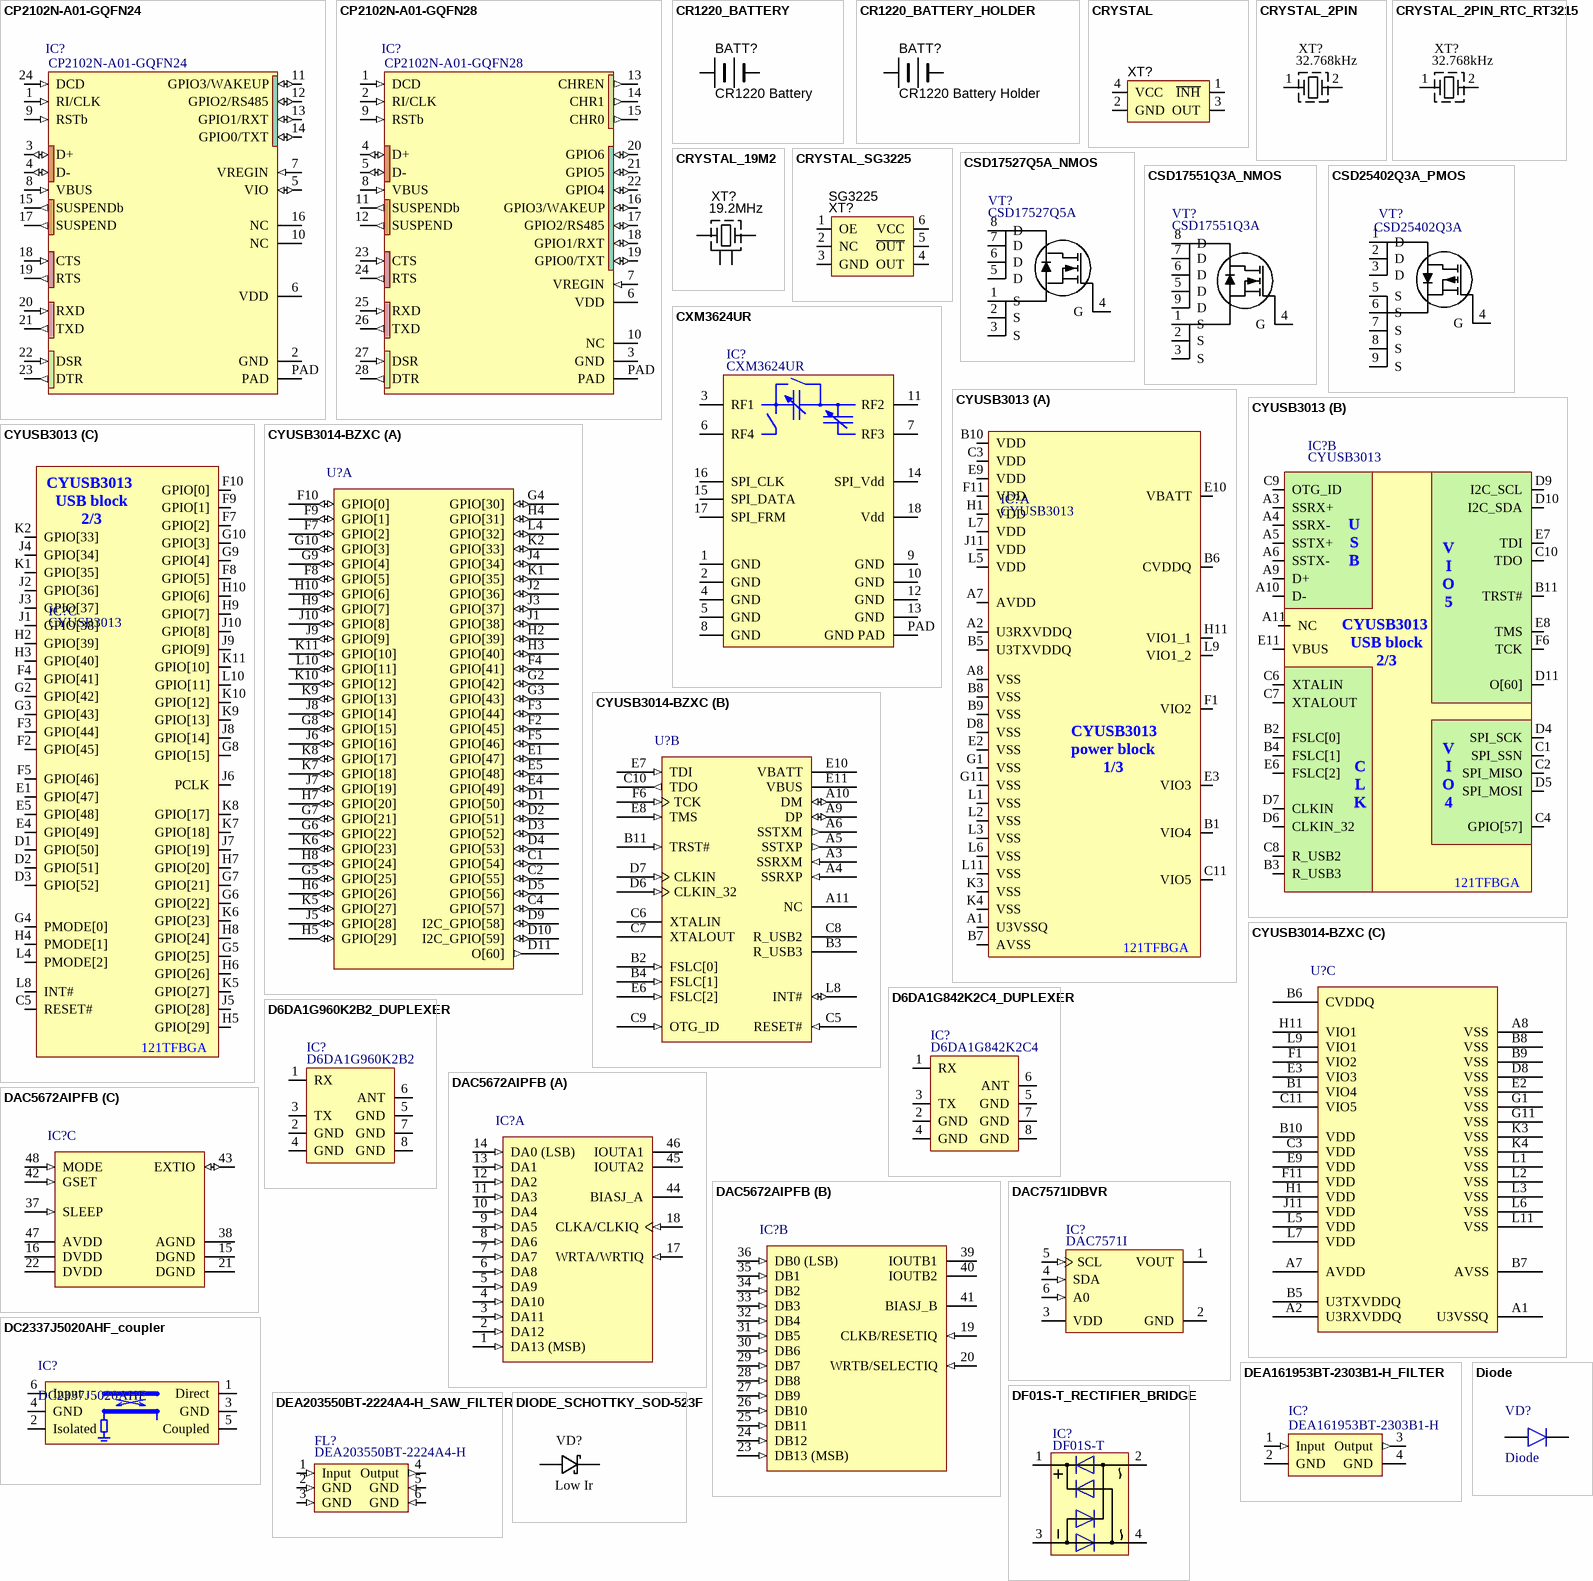
[diagram p26: symbols CP2102N-A01-GQFN24 to DIODE_SCHOTTKY_SOD-523F]

## CP2102N-A01-GQFN24
designator IC?
Part Description: USB Bridge, USB to UART USB 2.0 UART Interface 24-QFN (4x4); Manufacturer: Silicon Labs; Protocol: USB; Function: Bridge, USB to UART; Interface: UART; Standards: USB 2.0; Voltage - Supply: 2.2 V ~ 3.6 V; Current - Supply: 9.5mA; Supplier 1: Digi-Key; Manufacturer Part Number: CP2102N-A01-GQFN24; RoHS: RoHS Compliant; Category: Integrated Circuits (ICs); Stock 1: 608; Pricing 1: 1=1.36, 25=1.3132, 100=1.2625, 1000=1.2019 (USD); Packaging: Tray; Part Status: Active; Operating Temperature: -40°C ~ 85°C; Package / Case: 24-VFQFN Exposed Pad; Supplier Device Package: 24-QFN (4x4); ComponentLink1URL: http://www.silabs.com/support%20documents/technicaldocs/cp2102n-datasheet.pdf; ComponentLink1Description: http://www.silabs.com/support%20documents/technicaldocs/cp2102n-datasheet.pdf; Supplier Part Number 1: 336-3693-ND
footprint CP2102N-A01-GQFN24 (Footprint not found)
pins: 1 RI/CLK (in), 2 GND, 3 D+ (io), 4 D- (io), 5 VIO (io), 6 VDD (power), 7 VREGIN (in), 8 VBUS (in), 9 RSTb (in), 10 NC, 11 GPIO3/WAKEUP (io), 12 GPIO2/RS485 (io), 13 GPIO1/RXT (io), 14 GPIO0/TXT (io), 15 SUSPENDb (out), 16 NC, 17 SUSPEND (out), 18 CTS (in), 19 RTS (out), 20 RXD (in), 21 TXD (out), 22 DSR (in), 23 DTR (out), 24 DCD (in), PAD

## CP2102N-A01-GQFN28
designator IC?
Manufacturer: Silicon Labs; Part Description: USB Bridge, USB to UART USB 2.0 UART Interface 28-QFN (5x5); Protocol: USB; Function: Bridge, USB to UART; Interface: UART; Standards: USB 2.0; Voltage - Supply: 2.2 V ~ 3.6 V; Current - Supply: 9.5mA; Supplier 1: Digi-Key; Manufacturer Part Number 1: CP2102N-A01-GQFN28; RoHS: RoHS Compliant; Category: Integrated Circuits (ICs); Stock 1: 262; Pricing 1: 1=1.41, 25=1.3636, 100=1.313, 1000=1.2524 (USD); Packaging: Tray; Part Status: Active; Operating Temperature: -40°C ~ 85°C; Package / Case: 28-WFQFN Exposed Pad; Supplier Device Package: 28-QFN (5x5); ComponentLink1URL: http://www.silabs.com/support%20documents/technicaldocs/cp2102n-datasheet.pdf; ComponentLink1Description: http://www.silabs.com/support%20documents/technicaldocs/cp2102n-datasheet.pdf; Supplier Part Number 1: 336-3694-ND
footprint CP2102N-A01-GQFN28 (Footprint not found)
pins: 1 DCD (in), 2 RI/CLK (in), 3 GND, 4 D+ (io), 5 D- (io), 6 VDD (power), 7 VREGIN (in), 8 VBUS (in), 9 RSTb (in), 10 NC, 11 SUSPENDb (out), 12 SUSPEND (out), 13 CHREN (out), 14 CHR1 (out), 15 CHR0 (out), 16 GPIO3/WAKEUP (io), 17 GPIO2/RS485 (io), 18 GPIO1/RXT (io), 19 GPIO0/TXT (io), 20 GPIO6 (io), 21 GPIO5 (io), 22 GPIO4 (io), 23 CTS (in), 24 RTS (out), 25 RXD (in), 26 TXD (out), 27 DSR (in), 28 DTR (out), PAD

## CR1220_BATTERY
designator BATT?, comment CR1220 Battery  (mechanical)
Part Description: Lithium Battery Non-Rechargeable (Primary) 3V Coin, 12.5mm; Manufacturer: Panasonic - BSG; Battery Chemistry: Lithium; Battery Cell Size: Coin, 12.5mm; Voltage - Rated: 3V; Capacity: 35mAh; Discharge Rate: 100µA; Shipping Info: Due to possible restrictions, a change in ship method may be required.; Max Air Shipment Qty: 1600; Supplier 1: Digi-Key; Manufacturer Part Number 1: CR1220; RoHS: Not Applicable; Category: Battery Products; Stock 1: 19831; Pricing 1: 1=0.9, 10=0.812, 50=0.7214, 100=0.6312, 250=0.57712, 500=0.54106, 1600=0.48153, 3200=0.44651, 5000=0.43775 (USD); Part Status: Active; Size / Dimension: 0.49" Dia x 0.08" H (12.5mm x 2.0mm); Termination Style: Requires Holder; Weight: 1.2g; ComponentLink1URL: http://na.industrial.panasonic.com/sites/default/pidsa/files/crseries_datasheets_merged.pdf; ComponentLink1Description: http://na.industrial.panasonic.com/sites/default/pidsa/files/crseries_datasheets_merged.pdf; Supplier Part Number 1: P033-ND
pins: NEGATIVE, POSITIVE

## CR1220_BATTERY_HOLDER
designator BATT?, comment CR1220 Battery Holder
Part Description: HOLDER COIN CELL FOR CR1220 SMD; Manufacturer: MPD (Memory Protection Devices); Manufacturer Part Number 1: BC501SM; Battery Type, Function: Coin Cell, Holder; Style: Holder (Open); Battery Cell Size: Coin, 12.0mm; Number of Cells: 1; Battery Series: 1220; Supplier 1: Digi-Key; RoHS: RoHS Compliant; Category: Battery Products; Stock 1: 17830; Pricing 1: 1=0.88, 10=0.81, 100=0.73, 500=0.68, 1000=0.59 (USD); Part Status: Active; Mounting Type: PCB, Surface Mount; Termination Style: SMD (SMT) Tab; Height Above Board: 0.157" (4.00mm); Operating Temperature: -40°C ~ 85°C; ComponentLink1URL: http://www.memoryprotectiondevices.com/datasheets/BC501SM-datasheet.pdf; ComponentLink1Description: http://www.memoryprotectiondevices.com/datasheets/BC501SM-datasheet.pdf; Supplier Part Number 1: BC501SM-ND
footprint CR1220_SMD_holder
pins: NEGATIVE, POSITIVE

## CRYSTAL
designator XT?
Oscillator Crystal
footprint CRYSTAL_4-LCC_v3 (SMD Crystal 4-lead leadless package)
pins: 1 ~{INH}, 2 GND, 3 OUT, 4 VCC

## CRYSTAL_2PIN
designator XT?, comment 32.768kHz
Manufacturer 1: EPSON; Manufacturer Part Number 1: FC-135R 32.7680KA-A3; Part Description: 32.768kHz ±20ppm Crystal 12.5pF 50 kOhms 2-SMD, No Lead; Supplier 1: Digi-Key; Supplier Part Number 1: SER4071CT-ND
footprint CRYSTAL_RTC_2PIN_3P2x1P5
pins: 1 X, 2 X

## CRYSTAL_2PIN_RTC_RT3215
designator XT?, comment 32.768kHz
Part Description: 32.768 kHz ±10ppm Crystal 12.5pF 70 kOhms 2-SMD, No Lead; Manufacturer: Raltron Electronics; Manufacturer Part Number 1: RT3215-32.768-12.5-TR-10PPM; Supplier 1: Digi-Key; Supplier Part Number 1: 2151-RT3215-32.768-12.5-TR-10PPMTR-ND; Stock 1: 21000; Pricing 1: 3000=0,39875, 6000=0,38500, 15000=0,37125 (USD); Lead Free: Lead Free; RoHS Compliant: Yes; ComponentLink1URL: https://datasheet.octopart.com/RT3215-32.768-12.5-TR-10PPM-Raltron-Electronics-datasheet-12522443.pdf?src-supplier=Future+Electronics; ComponentLink1Description: https://datasheet.octopart.com/RT3215-32.768-12.5-TR-10PPM-Raltron-Electronics-datasheet-12522443.pdf?src-supplier=Future+Electronics; ComponentLink2URL: https://datasheet.octopart.com/RT3215-32.768-12.5-TR-10PPM-Raltron-Electronics-datasheet-62112304.pdf?src-supplier=Future+Electronics; ComponentLink2Description: https://datasheet.octopart.com/RT3215-32.768-12.5-TR-10PPM-Raltron-Electronics-datasheet-62112304.pdf?src-supplier=Future+Electronics; ComponentLink3URL: https://datasheet.octopart.com/RT3215-32.768-12.5-TR-10PPM-Raltron-Electronics-datasheet-82614827.pdf?src-supplier=Future+Electronics; ComponentLink3Description: https://datasheet.octopart.com/RT3215-32.768-12.5-TR-10PPM-Raltron-Electronics-datasheet-82614827.pdf?src-supplier=Future+Electronics
footprint CRYSTAL_2PIN_RTC_RT3215
pins: 1 X, 2 X

## CRYSTAL_19M2
designator XT?, comment 19.2MHz
Oscillator Crystal 27.12 MHz 10ppm; Manufacturer 1: TXC CORPORATION; Manufacturer Part Number 1: 7M-27.120MEEQ-T; Ratings: 4.9152 MHz Crystal; Load Capacitance: 10pF; Operating Mode: Fundamental; Package / Case: 2.5mm pitch; Material: Ceramic; Supplier 1: Digi-Key; Supplier Part Number 1: 887-1329-1-ND; Type: MHz Crystal; Frequency Stability: ±10ppm; Frequency Tolerance: ±10ppm; Operating Temperature: -20°C ~ 70°C; Mounting Type: Surface Mount; Size / Dimension: 0.126" L x 0.098" W (3.20mm x 2.50mm); ComponentLink1URL: http://www.txccrystal.com/images/pdf/7m-accuracy.pdf; ComponentLink1Description: http://www.txccrystal.com/images/pdf/7m-accuracy.pdf
footprint CRYSTAL_4-LCC (SMD Crystal 4-lead leadless package)
pins: 1 X, 2 GND, 3 X, 4 GND

## CRYSTAL_SG3225
designator XT?, comment SG3225
Oscillator Crystal; Manufacturer Part Number 1: SG3225EAN 100.000000M-KEGA3; Manufacturer: EPSON; Voltage - Supply: 2.5 V ~ 3.3 V; Output: LVPECL; Function: Tri-State (Output Enable); Frequency Stability: ±30ppm; Frequency: 100MHz; Current - Supply (Max): 65mA; Current - Supply (Disable) (Max): 20mA; Supplier 1: Digi-Key; Category: Crystals and Oscillators; Packaging: Cut Tape (CT); Type: XO (Standard); RoHS: RoHS Compliant; Package / Case: 6-SMD, No Lead (DFN, LCC); Height: 0.047" (1.20mm); Mounting Type: Surface Mount; Ratings: -; Operating Temperature: -40°C ~ 85°C; Size / Dimension: 0.126" L x 0.098" W (3.20mm x 2.50mm); Supplier Part Number 1: SER3921CT-ND
footprint CRYSTAL_6-LCC (SMD Crystal 6-lead leadless package)
pins: 1 OE, 2 NC, 3 GND, 4 OUT, 5 ~{OUT}, 6 VCC (power)

## CSD17527Q5A_NMOS
designator VT?, comment CSD17527Q5A
Part Desription: N-Channel 30V 65A (Tc) 3W (Ta) Surface Mount 8-VSONP (5x6); Manufacturer: Texas Instruments; Rise Time: 8.2ns; Rds On Max: 10.8mR; Input Capacitance: 506pF; Drain to Source Voltage (Vdss): 30V; Continuous Drain Current (ID): 65A; Max Power Dissipation: 3W; Fall Time: 3.2ns; Gate to Source Voltage (Vgs): 20V; Turn-Off Delay Time: 9.8ns; Turn-On Delay Time: 5.6ns; Number of Elements: 1; Element Configuration: Single; ComponentLink1URL: http://www.st.com/web/en/resource/technical/document/datasheet/CD00103832.pdf; ComponentLink1Description: http://www.st.com/web/en/resource/technical/document/datasheet/CD00103832.pdf; ComponentLink2URL: http://www.st.com/content/ccc/resource/technical/document/datasheet/00/75/48/c3/62/90/4a/32/CD00103832.pdf/files/CD00103832.pdf/jcr:content/translations/en.CD00103832.pdf; ComponentLink2Description: http://www.st.com/content/ccc/resource/technical/document/datasheet/00/75/48/c3/62/90/4a/32/CD00103832.pdf/files/CD00103832.pdf/jcr:content/translations/en.CD00103832.pdf; ComponentLink3URL: http://www.mouser.com/ds/2/389/CD00103832-114014.pdf; ComponentLink3Description: http://www.mouser.com/ds/2/389/CD00103832-114014.pdf; Supplier 1: Digi-Key; Manufacturer Part Number 1: CSD17527Q5A; RoHS: Yes; Stock 1: 28951; Pricing 1: 1 = 1,20000, 10 = 1,06600, 100 = 0,84280, 500 = 0,65364, 1000 = 0,51603 (USD); Mount: Surface Mount; Number of Pins: 8; Contact Plating: Tin; Min Operating Temperature: -55°C; Max Operating Temperature: 150°C; Packaging: Tape and Reel; Package Quantity: 2500; Drain to Source Breakdown Voltage: 30V; Drain to Source Resistance: 10.8mR; Power Dissipation: 3W; Radiation Hardening: No; ComponentLink4URL: http://www.ti.com/general/docs/lit/getliterature.tsp?genericPartNumber=CSD17527Q5A&&fileType=pdf; ComponentLink4Description: http://www.ti.com/general/docs/lit/getliterature.tsp?genericPartNumber=CSD17527Q5A&&fileType=pdf; ComponentLink5URL: http://www.ti.com/lit/ds/slps331a/slps331a.pdf; ComponentLink5Description: http://www.ti.com/lit/ds/slps331a/slps331a.pdf; ComponentLink6URL: http://www.ti.com/lit/ds/symlink/csd17527q5a.pdf; ComponentLink6Description: http://www.ti.com/lit/ds/symlink/csd17527q5a.pdf; ComponentLink7URL: http://www.ti.com/litv/slps331a; ComponentLink7Description: http://www.ti.com/litv/slps331a; Supplier Part Number 1: 296-29021-1-ND
footprint CSD17527Q5A_NMOS_8-VSONP
pins: 1 S, 2 S, 3 S, 4 G, 5 D, 6 D, 7 D, 8 D

## CSD17551Q3A_NMOS
designator VT?, comment CSD17551Q3A
Part Desription: N-Channel 12A (Tc) 2.6W (Ta) Surface Mount 8-SON (3.3x3.3); Manufacturer: Texas Instruments; Rds On Max: 9mR; Input Capacitance: 1.37nF; Rise Time: 24ns; Nominal Vgs: 1.6V; Drain to Source Voltage (Vdss): 30V; Continuous Drain Current (ID): 12A; Max Power Dissipation: 2.6W; Fall Time: 3.4ns; Drain to Source Resistance: 9.6mR; Turn-Off Delay Time: 12ns; Turn-On Delay Time: 8ns; Number of Elements: 1; Gate to Source Voltage (Vgs): 20V; ComponentLink1URL: http://www.st.com/web/en/resource/technical/document/datasheet/CD00103832.pdf; ComponentLink1Description: http://www.st.com/web/en/resource/technical/document/datasheet/CD00103832.pdf; ComponentLink2URL: http://www.st.com/content/ccc/resource/technical/document/datasheet/00/75/48/c3/62/90/4a/32/CD00103832.pdf/files/CD00103832.pdf/jcr:content/translations/en.CD00103832.pdf; ComponentLink2Description: http://www.st.com/content/ccc/resource/technical/document/datasheet/00/75/48/c3/62/90/4a/32/CD00103832.pdf/files/CD00103832.pdf/jcr:content/translations/en.CD00103832.pdf; ComponentLink3URL: http://www.mouser.com/ds/2/389/CD00103832-114014.pdf; ComponentLink3Description: http://www.mouser.com/ds/2/389/CD00103832-114014.pdf; ComponentLink4URL: http://www.ti.com/general/docs/lit/getliterature.tsp?genericPartNumber=CSD17527Q5A&&fileType=pdf; ComponentLink4Description: http://www.ti.com/general/docs/lit/getliterature.tsp?genericPartNumber=CSD17527Q5A&&fileType=pdf; ComponentLink5URL: http://www.ti.com/lit/ds/slps331a/slps331a.pdf; ComponentLink5Description: http://www.ti.com/lit/ds/slps331a/slps331a.pdf; ComponentLink6URL: http://www.ti.com/lit/ds/symlink/csd17527q5a.pdf; ComponentLink6Description: http://www.ti.com/lit/ds/symlink/csd17527q5a.pdf; ComponentLink7URL: http://www.ti.com/litv/slps331a; ComponentLink7Description: http://www.ti.com/litv/slps331a; Supplier 1: Digi-Key; Supplier Part Number 1: 296-35025-1-ND; Manufacturer Part Number 1: CSD17551Q3A; Stock 1: 7637; Pricing 1: 1=0,87000, 10=0,76900, 25=0,72240, 100=0,52430, 500=0,43804, 1000=0,37280 (USD); RoHS: Yes; Mount: Surface Mount; Number of Pins: 8; Contact Plating: Tin,Matte; Min Operating Temperature: -55°C; Max Operating Temperature: 150°C; Package Quantity: 1; Packaging: Tape and Reel; Power Dissipation: 2.6W; Threshold Voltage: 1.6V; Radiation Hardening: No; REACH SVHC: Unknown; Lead Free: Lead Free; ComponentLink8URL: https://datasheet.ciiva.com/6387/csd17551q3a-6387809.pdf?src-supplier=Digi-Key; ComponentLink8Description: https://datasheet.ciiva.com/6387/csd17551q3a-6387809.pdf?src-supplier=Digi-Key; ComponentLink9URL: https://datasheet.ciiva.com/13063/csd17551q3a-109222-13063418.pdf?src-supplier=Mouser; ComponentLink9Description: https://datasheet.ciiva.com/13063/csd17551q3a-109222-13063418.pdf?src-supplier=Mouser; ComponentLink10URL: https://datasheet.ciiva.com/14192/csd17551q3a-14192907.pdf?src-supplier=Avnet; ComponentLink10Description: https://datasheet.ciiva.com/14192/csd17551q3a-14192907.pdf?src-supplier=Avnet; ComponentLink11URL: https://datasheet.ciiva.com/22656/csd17551q3a-22656093.pdf?src-supplier=Farnell; ComponentLink11Description: https://datasheet.ciiva.com/22656/csd17551q3a-22656093.pdf?src-supplier=Farnell; ComponentLink12URL: https://datasheet.ciiva.com/6387/csd17551q3a-6387807.pdf?src-supplier=Digi-Key; ComponentLink12Description: https://datasheet.ciiva.com/6387/csd17551q3a-6387807.pdf?src-supplier=Digi-Key
footprint CSD17527Q5A_NMOS_8-VSONP
pins: 1 S, 2 S, 3 S, 4 G, 5 D, 6 D, 7 D, 8 D, 9 D

## CSD25402Q3A_PMOS
designator VT?, comment CSD25402Q3A
Manufacturer: Texas Instruments; Element Configuration: Single; Rise Time: 7ns; Rds On Max: 8.9mR; Input Capacitance: 1.79nF; Drain to Source Voltage (Vdss): 20V; Continuous Drain Current (ID): 76A; Max Power Dissipation: 69W; Turn-On Delay Time: 10ns; Turn-Off Delay Time: 25ns; Fall Time: 12ns; Threshold Voltage: 900mV; Gate to Source Voltage (Vgs): 650mV; Number of Channels: 1; Part Description: *; Supplier 1: Digi-Key; Supplier Part Number 1: 296-38916-1-ND; Manufacturer Part Number 1: CSD25402Q3A; Stock 1: 215623; Pricing 1: 1=0,85000, 10=0,75800, 25=0,71960, 100=0,53970, 500=0,45746, 1000=0,37265 (USD); RoHS: Yes; Mount: Surface Mount; Number of Pins: 8; Contact Plating: Tin; Min Operating Temperature: -55°C; Max Operating Temperature: 125°C; Package Quantity: 2500; Packaging: Cut Tape; Drain to Source Breakdown Voltage: 20V; Drain to Source Resistance: 8.9mR; Length: 3.15mm; Height: 0.9mm; Width: 3mm; Lead Free: Lead Free; REACH SVHC: No SVHC; ComponentLink1URL: https://datasheet.ciiva.com/30021/csd25402q3a-30021955.pdf?src-supplier=Avnet; ComponentLink1Description: https://datasheet.ciiva.com/30021/csd25402q3a-30021955.pdf?src-supplier=Avnet
footprint CSD25402Q3A_PMOS_SON3X3
pins: 1 D, 2 D, 3 D, 4 G, 5 S, 6 S, 7 S, 8 S, 9 S

## CXM3624UR
designator IC?
5-bit series and 4-bit shunt Switchable Step Capacitor (SPI30-bit); Manufacturer: Sony; Manufacturer Part Number 1: CXM3624UR; Supplier 1: Sony; Supplier Part Number 1: CXM3624UR; Part Description: 5-bit series and 4-bit shunt Switchable Step Capacitor (SPI30-bit)
footprint CXM3624UR_UQFN-18P
pins: 1 GND, 2 GND, 3 RF1, 4 GND, 5 GND, 6 RF4, 7 RF3, 8 GND, 9 GND, 10 GND, 11 RF2, 12 GND, 13 GND, 14 SPI_Vdd, 15 SPI_DATA, 16 SPI_CLK, 17 SPI_FRM, 18 Vdd (power), PAD GND PAD

## CYUSB3013
designator IC?
Cypress USB3.0 chip; Voltage - Supply: 1.15 V ~ 1.25 V; Supplier 1: Digi-Key; Supplier Part Number 1: 428-3181-ND; Package / Case: 121-TFBGA
footprint CYUSB3013 (BGA, 121-Leads, Body 10,50x10,50mmx1,10mm, Pitch 0,80mm)
part A pins: A1 U3VSSQ (power), A2 U3RXVDDQ (power), A7 AVDD (power), A8 VSS (power), B1 VIO4 (power), B5 U3TXVDDQ (power), B6 CVDDQ (power), B7 AVSS (power), B8 VSS (power), B9 VSS (power), B10 VDD (power), C3 VDD (power), C11 VIO5 (power), D8 VSS (power), E2 VSS (power), E3 VIO3 (power), E9 VDD (power), E10 VBATT (power), F1 VIO2 (power), F11 VDD (power), G1 VSS (power), G11 VSS (power), H1 VDD (power), H11 VIO1_1 (power), J11 VDD (power), K3 VSS (power), K4 VSS (power), L1 VSS (power), L2 VSS (power), L3 VSS (power), L5 VDD (power), L6 VSS (power), L7 VDD (power), L9 VIO1_2 (power), L11 VSS (power)
part B pins: A3 SSRX+, A4 SSRX-, A5 SSTX+, A6 SSTX-, A9 D+, A10 D-, A11 NC, B2 FSLC[0], B3 R_USB3, B4 FSLC[1], B11 TRST#, C1 SPI_SSN, C2 SPI_MISO, C4 GPIO[57], C6 XTALIN, C7 XTALOUT, C8 R_USB2, C9 OTG_ID, C10 TDO, D4 SPI_SCK, D5 SPI_MOSI, D6 CLKIN_32 (in), D7 CLKIN (in), D9 I2C_SCL, D10 I2C_SDA, D11 O[60], E6 FSLC[2], E7 TDI, E8 TMS, E11 VBUS (power), F6 TCK
part C pins: C5 RESET#, D1 GPIO[50], D2 GPIO[51], D3 GPIO[52], E1 GPIO[47], E4 GPIO[49], E5 GPIO[48], F2 GPIO[45], F3 GPIO[44], F4 GPIO[41], F5 GPIO[46], F7 GPIO[2], F8 GPIO[5], F9 GPIO[1], F10 GPIO[0], G2 GPIO[42], G3 GPIO[43], G4 PMODE[0], G5 GPIO[25], G6 GPIO[22], G7 GPIO[21], G8 GPIO[15], G9 GPIO[4], G10 GPIO[3], H2 GPIO[39], H3 GPIO[40], H4 PMODE[1], H5 GPIO[29], H6 GPIO[26], H7 GPIO[20], H8 GPIO[24], H9 GPIO[7], H10 GPIO[6], J1 GPIO[38], J2 GPIO[36], J3 GPIO[37], J4 GPIO[34], J5 GPIO[28], J6 PCLK (in), J7 GPIO[19], J8 GPIO[14], J9 GPIO[9], J10 GPIO[8], K1 GPIO[35], K2 GPIO[33], K5 GPIO[27], K6 GPIO[23], K7 GPIO[18], K8 GPIO[17], K9 GPIO[13], K10 GPIO[12], K11 GPIO[10], L4 PMODE[2], L8 INT#, L10 GPIO[11]
part A text: CYUSB3013 / power block / 1/3; 121TFBGA
part B text: U / S / B; V / I / O / 5; CYUSB3013 / USB block / 2/3; C / L / K; V / I / O / 4; 121TFBGA
part C text: CYUSB3013 / USB block / 2/3; 121TFBGA

## CYUSB3014-BZXC
designator U?
EZ-USB(R) FX3: SuperSpeed USB Controller, 512 KB, 60 I/Os, 0 to 70 degC, 121-Pin FBGA (BZX121); Manufacturer: Cypress; PartNumber: CYUSB3014-BZXC; CPU Core: ARM926 EJ-S; Max. Operating Voltage (V): 1.25; Memory Architecture: SRAM; Memory Size (KB): 512; Min. Operating Voltage (V): 1.15; No. of I/Os: 60; DatasheetVersion: Rev. *O; PackageVersion: Rev. *D; PackageReference: BZX121; PackageDescription: 121-Ball FBGA, Body 10 x 10 mm, Pitch 0.8 mm; Supplier 1: Digi-Key; Supplier Part Number 1: 428-3182-ND; Supplier 2: Farnell; Supplier Part Number 2: 2355789; Supplier 3: Newark; Supplier Part Number 3: 54W7901; Supplier 4: Mouser; Supplier Part Number 4: 727-CYUSB3014-BZXC; Max. Operating Temp. (degreesC): 70; Min. Operating Temp. (degreesC): 0; RoHS: Pb-Free; Mounting Technology: Surface Mount; Code_JEDEC: PUB 95; ComponentLink1Description: Manufacturer URL; ComponentLink1URL: http://www.cypress.com/; ComponentLink2Description: Datasheet; ComponentLink2URL: http://www.cypress.com/?docID=49087; ComponentLink3Description: Package Specification; ComponentLink3URL: http://www.cypress.com/?docID=45795
footprint CYP-BZX121 (BGA, 121-Balls, Body 10x10mm, Pitch 0.8mm)
part A pins: C1 GPIO[54] (io), C2 GPIO[55] (io), C4 GPIO[57] (io), D1 GPIO[50] (io), D2 GPIO[51] (io), D3 GPIO[52] (io), D4 GPIO[53] (io), D5 GPIO[56] (io), D9 I2C_GPIO[58] (io), D10 I2C_GPIO[59] (io), D11 O[60] (out), E1 GPIO[47] (io), E4 GPIO[49] (io), E5 GPIO[48] (io), F2 GPIO[45] (io), F3 GPIO[44] (io), F4 GPIO[41] (io), F5 GPIO[46] (io), F7 GPIO[2] (io), F8 GPIO[5] (io), F9 GPIO[1] (io), F10 GPIO[0] (io), G2 GPIO[42] (io), G3 GPIO[43] (io), G4 GPIO[30] (io), G5 GPIO[25] (io), G6 GPIO[22] (io), G7 GPIO[21] (io), G8 GPIO[15] (io), G9 GPIO[4] (io), G10 GPIO[3] (io), H2 GPIO[39] (io), H3 GPIO[40] (io), H4 GPIO[31] (io), H5 GPIO[29] (io), H6 GPIO[26] (io), H7 GPIO[20] (io), H8 GPIO[24] (io), H9 GPIO[7] (io), H10 GPIO[6] (io), J1 GPIO[38] (io), J2 GPIO[36] (io), J3 GPIO[37] (io), J4 GPIO[34] (io), J5 GPIO[28] (io), J6 GPIO[16] (io), J7 GPIO[19] (io), J8 GPIO[14] (io), J9 GPIO[9] (io), J10 GPIO[8] (io), K1 GPIO[35] (io), K2 GPIO[33] (io), K5 GPIO[27] (io), K6 GPIO[23] (io), K7 GPIO[18] (io), K8 GPIO[17] (io), K9 GPIO[13] (io), K10 GPIO[12] (io), K11 GPIO[10] (io), L4 GPIO[32] (io), L10 GPIO[11] (io)
part B pins: A3 SSRXM (in), A4 SSRXP (in), A5 SSTXP (out), A6 SSTXM (out), A9 DP (io), A10 DM (io), A11 NC, B2 FSLC[0] (in), B3 R_USB3, B4 FSLC[1] (in), B11 TRST# (in), C5 RESET# (in), C6 XTALIN, C7 XTALOUT, C8 R_USB2, C9 OTG_ID (in), C10 TDO (out), D6 CLKIN_32 (in), D7 CLKIN (in), E6 FSLC[2] (in), E7 TDI (in), E8 TMS (in), E10 VBATT (power), E11 VBUS (power), F6 TCK (in), L8 INT# (io)
part C pins: A1 U3VSSQ (power), A2 U3RXVDDQ (power), A7 AVDD (power), A8 VSS (power), B1 VIO4 (power), B5 U3TXVDDQ (power), B6 CVDDQ (power), B7 AVSS (power), B8 VSS (power), B9 VSS (power), B10 VDD (power), C3 VDD (power), C11 VIO5 (power), D8 VSS (power), E2 VSS (power), E3 VIO3 (power), E9 VDD (power), F1 VIO2 (power), F11 VDD (power), G1 VSS (power), G11 VSS (power), H1 VDD (power), H11 VIO1 (power), J11 VDD (power), K3 VSS (power), K4 VSS (power), L1 VSS (power), L2 VSS (power), L3 VSS (power), L5 VDD (power), L6 VSS (power), L7 VDD (power), L9 VIO1 (power), L11 VSS (power)

## D6DA1G842K2C4_DUPLEXER
designator IC?, comment D6DA1G842K2C4
LTE Band 3 Duplexer; Part Description: LTE Band 3 Duplexer; 29dBm CW max; 1.4 x 1.8 package; Manufacturer: Taiyo Yuden; Supplier 1: Taiyo Yuden; Manufacturer Part Number 1: D6DA1G842K2C4; Supplier Part NUmber 1: D6DA1G842K2C4
pins: 1 RX (io), 2 GND, 3 TX (io), 4 GND, 5 GND, 6 ANT (io), 7 GND, 8 GND